# Altium integrated library Simulation Transmission Line.IntLib: 3 symbols
Pins are listed as number, name and electrical type; pins without a type are passive.

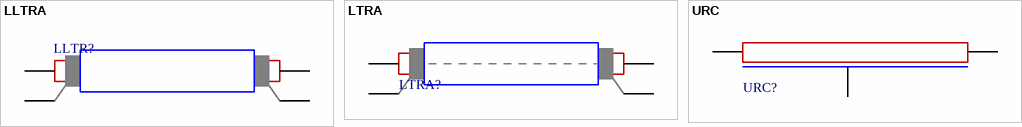
[diagram p0: symbols LLTRA to URC]

## LLTRA
designator LLTR?
Lossless Transmission Line; Published: 8-Jun-2000; LatestRevisionDate: 17-Jul-2002; LatestRevisionNote: Re-released for DXP Platform.; PackageReference: Not Applicable; Publisher: Altium Limited
simulation model LLTRA
pins: 1 N1+, 2 N1-, 3 N2+, 4 N2-

## LTRA
designator LTRA?
LossyTransmission Line; Note: PCB Footprint - Not required; Published: 8-Jun-2000; LatestRevisionDate: 17-Jul-2002; LatestRevisionNote: Re-released for DXP Platform.; PackageReference: Not Applicable; Publisher: Altium Limited
simulation model LTRA
pins: 1 N1+, 2 N1-, 3 N2+, 4 N2-

## URC
designator URC?
Uniform Distributed Lossy Line; Note: PCB Footprint - Not required; Published: 8-Jun-2000; LatestRevisionDate: 17-Jul-2002; LatestRevisionNote: Re-released for DXP Platform.; PackageReference: Not Applicable; Publisher: Altium Limited
simulation model URC
pins: 1 N1, 2 C1, 3 N2